# Altium footprint library PcbLib2.PcbLib: 1 footprints
Each footprint in its own frame and in the unit in brackets; x right, y up, seen from the top. Pads: shape width x height; smd on the part's side, far side on the other; paste and mask are expansions set on the pad; w line width, h text height; cw(c..) or ccw(c..) is an arc to the next point about the centre after c.
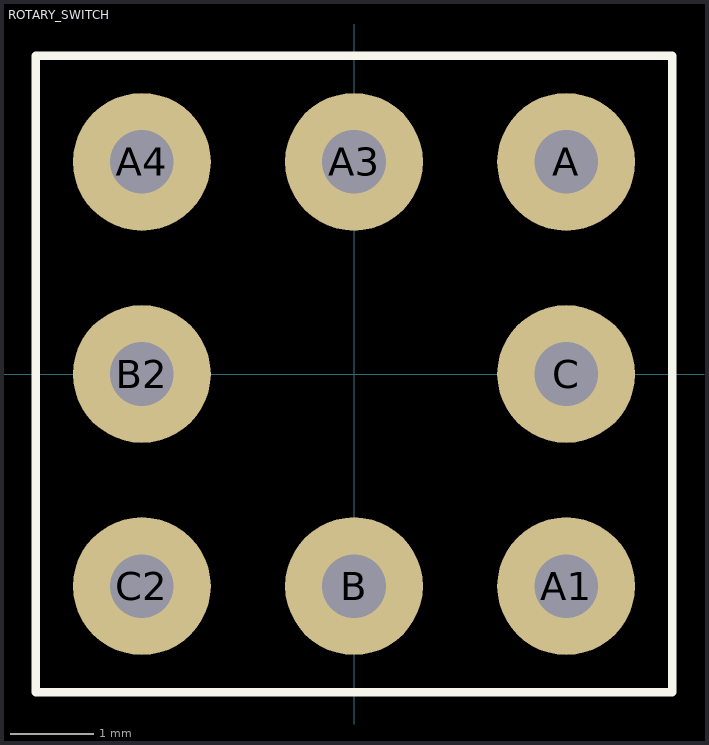
[diagram p0: the footprint, top view; thin cyan lines are the x and y axes]

## ROTARY_SWITCH [mil]
pads (8):
  round 65 hole 30: A(100,100) A1(100,-100) A3(0,100) A4(-100,100) B(0,-100) B2(-100,0) C(100,0) C2(-100,-100)
Top Overlay:
  lines w3.94: -150,-150 150,-150 150,150 72.5,150 -62.5,150 -130,150 -150,150 -150,-150